# Altium schematic symbol library Modules-RF.SchLib: 2 symbols
Pins are listed as number, name and electrical type; pins without a type are passive.

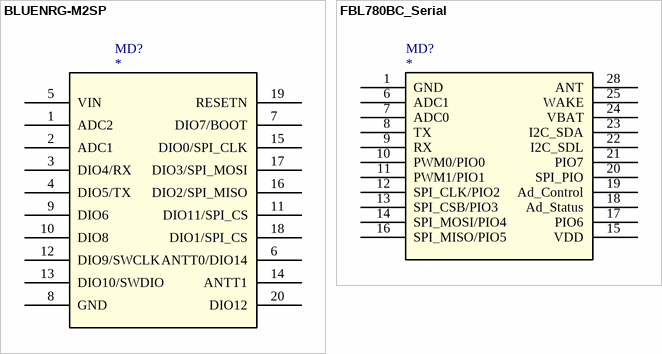
[diagram p0: symbols BLUENRG-M2SP to FBL780BC_Serial]

## BLUENRG-M2SP
designator MD?
Manufacturer: STMicroelectronics; PartNumber: BLUENRG-M2SP
footprint BLUENRG-M2SP
pins: 1 ADC2, 2 ADC1, 3 DIO4/RX, 4 DIO5/TX, 5 VIN (power), 6 ANTT0/DIO14, 7 DIO7/BOOT, 8 GND (power), 9 DIO6 (power), 10 DIO8, 11 DIO11/SPI_CS, 12 DIO9/SWCLK, 13 DIO10/SWDIO, 14 ANTT1, 15 DIO0/SPI_CLK, 16 DIO2/SPI_MISO, 17 DIO3/SPI_MOSI, 18 DIO1/SPI_CS, 19 RESETN, 20 DIO12

## FBL780BC_Serial
designator MD?
Manufacturer: Firmtech; PartNumber: FBL780BC_Serial
footprint FBL780BC_Serial
pins: 1 GND (power), 6 ADC1, 7 ADC0, 8 TX, 9 RX, 10 PWM0/PIO0, 11 PWM1/PIO1, 12 SPI_CLK/PIO2, 13 SPI_CSB/PIO3, 14 SPI_MOSI/PIO4, 15 VDD (power), 16 SPI_MISO/PIO5, 17 PIO6, 18 Ad_Status, 19 Ad_Control, 20 SPI_PIO, 21 PIO7, 22 I2C_SDL, 23 I2C_SDA, 24 VBAT (power), 25 WAKE, 28 ANT